# EAGLE library part DF12A-10DS (library sf-keyglove)
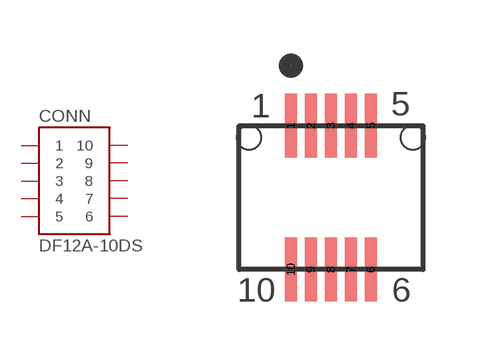
[diagram p11: symbol with the pads of DF12A-10DS; footprint DF12A-10DS]

Designator prefix CONN

## DF12A-10DS  [DF12A-10DS]
1  1
2  2
3  3
4  4
5  5
6  6
7  7
8  8
9  9
10  10

## Footprint DF12A-10DS (pad centres in mm)
smd 0.3 x 1.6: 1 -1,1.8; 2 -0.5,1.8; 3 0,1.8; 4 0.5,1.8; 5 1,1.8; 6 1,-1.8; 7 0.5,-1.8; 8 0,-1.8; 9 -0.5,-1.8; 10 -1,-1.8
hole 0.6 at 2.05,1.5
hole 0.6 at -2.05,1.5